# Altium footprint library Connector_PinHeader_2.00mm.PcbLib: 278 footprints (part 15 of 18)
Each footprint in its own frame and in the unit in brackets; x right, y up, seen from the top. Pads: shape width x height; smd on the part's side, far side on the other; paste and mask are expansions set on the pad; w line width, h text height; cw(c..) or ccw(c..) is an arc to the next point about the centre after c.
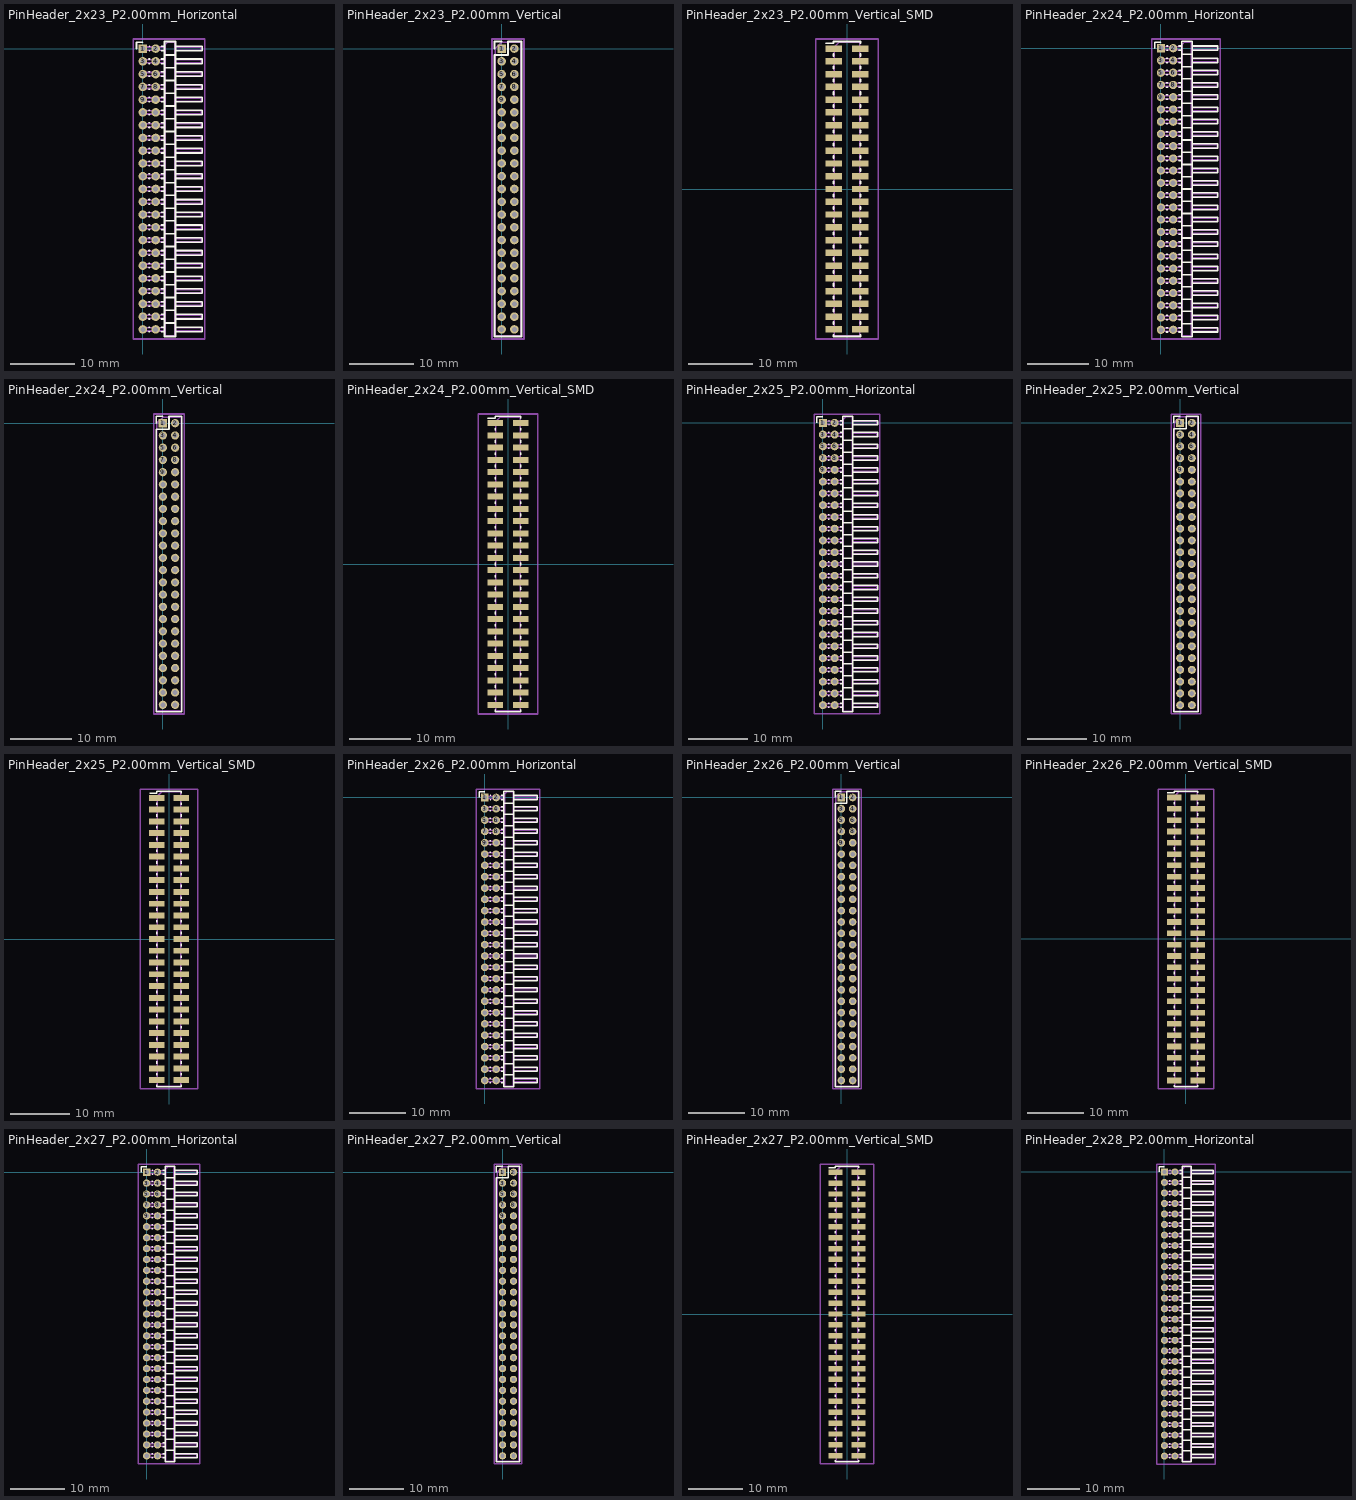
[diagram p14: the footprints below, top view; thin cyan lines are the x and y axes]

## PinHeader_2x23_P2.00mm_Horizontal [mm]
pads (46):
  rect 1.35x1.35 hole 0.8: 1(0,0)
  round 1.35 hole 0.8: 2(2,0) 3(0,-2) 4(2,-2) 5(0,-4) 6(2,-4) 7(0,-6) 8(2,-6) 9(0,-8) 10(2,-8) 11(0,-10) 12(2,-10) 13(0,-12) 14(2,-12) 15(0,-14) 16(2,-14) 17(0,-16) 18(2,-16) 19(0,-18) 20(2,-18) 21(0,-20) 22(2,-20) 23(0,-22) 24(2,-22) 25(0,-24) 26(2,-24) 27(0,-26) 28(2,-26) 29(0,-28) 30(2,-28) 31(0,-30) 32(2,-30) 33(0,-32) 34(2,-32) 35(0,-34) 36(2,-34) 37(0,-36) 38(2,-36) 39(0,-38) 40(2,-38) 41(0,-40) 42(2,-40) 43(0,-42) 44(2,-42) 45(0,-44) 46(2,-44)
F.SilkS:
  drawing of 190 lines, arcs and shapes, not listed
Top Assembly:
  lines w0.254: 3.5,-44.25 -0.25,-44.25 -0.25,-43.75 3.5,-43.75 ; 3.5,-42.25 -0.25,-42.25 -0.25,-41.75 3.5,-41.75 ; 3.5,-40.25 -0.25,-40.25 -0.25,-39.75 3.5,-39.75 ; 3.5,-38.25 -0.25,-38.25 -0.25,-37.75 3.5,-37.75 ; 3.5,-36.25 -0.25,-36.25 -0.25,-35.75 3.5,-35.75 ; 3.5,-34.25 -0.25,-34.25 -0.25,-33.75 3.5,-33.75 ; 3.5,-32.25 -0.25,-32.25 -0.25,-31.75 3.5,-31.75 ; 3.5,-30.25 -0.25,-30.25 -0.25,-29.75 3.5,-29.75 ; 3.5,-28.25 -0.25,-28.25 -0.25,-27.75 3.5,-27.75 ; 3.5,-26.25 -0.25,-26.25 -0.25,-25.75 3.5,-25.75 ; 3.5,-24.25 -0.25,-24.25 -0.25,-23.75 3.5,-23.75 ; 3.5,-22.25 -0.25,-22.25 -0.25,-21.75 3.5,-21.75 ; 3.5,-20.25 -0.25,-20.25 -0.25,-19.75 3.5,-19.75 ; 3.5,-18.25 -0.25,-18.25 -0.25,-17.75 3.5,-17.75 ; 3.5,-16.25 -0.25,-16.25 -0.25,-15.75 3.5,-15.75 ; 3.5,-14.25 -0.25,-14.25 -0.25,-13.75 3.5,-13.75 ; 3.5,-12.25 -0.25,-12.25 -0.25,-11.75 3.5,-11.75 ; 3.5,-10.25 -0.25,-10.25 -0.25,-9.75 3.5,-9.75 ; 3.5,-8.25 -0.25,-8.25 -0.25,-7.75 3.5,-7.75 ; 3.5,-6.25 -0.25,-6.25 -0.25,-5.75 3.5,-5.75 ; 3.5,-4.25 -0.25,-4.25 -0.25,-3.75 3.5,-3.75 ; 3.5,-2.25 -0.25,-2.25 -0.25,-1.75 3.5,-1.75 ; 3.5,-0.25 -0.25,-0.25 -0.25,0.25 3.5,0.25 ; 5,-44.25 9.2,-44.25 9.2,-43.75 5,-43.75 ; 5,-42.25 9.2,-42.25 9.2,-41.75 5,-41.75 ; 5,-40.25 9.2,-40.25 9.2,-39.75 5,-39.75 ; 5,-38.25 9.2,-38.25 9.2,-37.75 5,-37.75 ; 5,-36.25 9.2,-36.25 9.2,-35.75 5,-35.75 ; 5,-34.25 9.2,-34.25 9.2,-33.75 5,-33.75 ; 5,-32.25 9.2,-32.25 9.2,-31.75 5,-31.75 ; 5,-30.25 9.2,-30.25 9.2,-29.75 5,-29.75 ; 5,-28.25 9.2,-28.25 9.2,-27.75 5,-27.75 ; 5,-26.25 9.2,-26.25 9.2,-25.75 5,-25.75 ; 5,-24.25 9.2,-24.25 9.2,-23.75 5,-23.75 ; 5,-22.25 9.2,-22.25 9.2,-21.75 5,-21.75 ; 5,-20.25 9.2,-20.25 9.2,-19.75 5,-19.75 ; 5,-18.25 9.2,-18.25 9.2,-17.75 5,-17.75 ; 5,-16.25 9.2,-16.25 9.2,-15.75 5,-15.75 ; 5,-14.25 9.2,-14.25 9.2,-13.75 5,-13.75 ; 5,-12.25 9.2,-12.25 9.2,-11.75 5,-11.75 ; 5,-10.25 9.2,-10.25 9.2,-9.75 5,-9.75 ; 5,-8.25 9.2,-8.25 9.2,-7.75 5,-7.75 ; 5,-6.25 9.2,-6.25 9.2,-5.75 5,-5.75 ; 5,-4.25 9.2,-4.25 9.2,-3.75 5,-3.75 ; 5,-2.25 9.2,-2.25 9.2,-1.75 5,-1.75 ; 5,-0.25 9.2,-0.25 9.2,0.25 5,0.25 ; 3.5,-45 5,-45 5,1 3.875,1 3.5,0.625 3.5,-45
  text "'.Designator'" at 5.006,-25.642 h0.9
Top Courtyard:
  lines w0.254: -1.5,-45.5 9.7,-45.5 9.7,1.5 -1.5,1.5 -1.5,-45.5
Top Designator:
  text ".Designator" at -3.518,-22.508 h1.52

## PinHeader_2x23_P2.00mm_Vertical [mm]
pads (46):
  rect 1.35x1.35 hole 0.8: 1(0,0)
  round 1.35 hole 0.8: 2(2,0) 3(0,-2) 4(2,-2) 5(0,-4) 6(2,-4) 7(0,-6) 8(2,-6) 9(0,-8) 10(2,-8) 11(0,-10) 12(2,-10) 13(0,-12) 14(2,-12) 15(0,-14) 16(2,-14) 17(0,-16) 18(2,-16) 19(0,-18) 20(2,-18) 21(0,-20) 22(2,-20) 23(0,-22) 24(2,-22) 25(0,-24) 26(2,-24) 27(0,-26) 28(2,-26) 29(0,-28) 30(2,-28) 31(0,-30) 32(2,-30) 33(0,-32) 34(2,-32) 35(0,-34) 36(2,-34) 37(0,-36) 38(2,-36) 39(0,-38) 40(2,-38) 41(0,-40) 42(2,-40) 43(0,-42) 44(2,-42) 45(0,-44) 46(2,-44)
F.SilkS:
  lines w0.254: -1.11,0 -1.11,1.11 0,1.11 ; -1.11,-45.11 3.11,-45.11 3.11,1.11 1,1.11 1,-1 -1.11,-1 -1.11,-45.11
Top Assembly:
  lines w0.254: -1,-45 3,-45 3,1 0,1 -1,0 -1,-45
  text "'.Designator'" at 1.84,-26.047 h1
Top Courtyard:
  lines w0.254: -1.5,-45.5 3.5,-45.5 3.5,1.5 -1.5,1.5 -1.5,-45.5
Top Designator:
  text ".Designator" at -6.618,-22.508 h1.52

## PinHeader_2x23_P2.00mm_Vertical_SMD [mm]
pads (46):
  rect 2.58x1 smd: 1(-2.085,22) 2(2.085,22) 3(-2.085,20) 4(2.085,20) 5(-2.085,18) 6(2.085,18) 7(-2.085,16) 8(2.085,16) 9(-2.085,14) 10(2.085,14) 11(-2.085,12) 12(2.085,12) 13(-2.085,10) 14(2.085,10) 15(-2.085,8) 16(2.085,8) 17(-2.085,6) 18(2.085,6) 19(-2.085,4) 20(2.085,4) 21(-2.085,2) 22(2.085,2) 23(-2.085,0) 24(2.085,0) 25(-2.085,-2) 26(2.085,-2) 27(-2.085,-4) 28(2.085,-4) 29(-2.085,-6) 30(2.085,-6) 31(-2.085,-8) 32(2.085,-8) 33(-2.085,-10) 34(2.085,-10) 35(-2.085,-12) 36(2.085,-12) 37(-2.085,-14) 38(2.085,-14) 39(-2.085,-16) 40(2.085,-16) 41(-2.085,-18) 42(2.085,-18) 43(-2.085,-20) 44(2.085,-20) 45(-2.085,-22) 46(2.085,-22)
F.SilkS:
  lines w0.254: -3.315,22.81 -2.11,22.81 -2.11,23.11 2.11,23.11 2.11,22.81 ; -2.11,-22.81 -2.11,-23.11 2.11,-23.11 2.11,-22.81 ; -2.11,-21.19 -2.11,-20.81 ; -2.11,-19.19 -2.11,-18.81 ; -2.11,-17.19 -2.11,-16.81 ; -2.11,-15.19 -2.11,-14.81 ; -2.11,-13.19 -2.11,-12.81 ; -2.11,-11.19 -2.11,-10.81 ; -2.11,-9.19 -2.11,-8.81 ; -2.11,-7.19 -2.11,-6.81 ; -2.11,-5.19 -2.11,-4.81 ; -2.11,-3.19 -2.11,-2.81 ; -2.11,-1.19 -2.11,-0.81 ; -2.11,0.81 -2.11,1.19 ; -2.11,2.81 -2.11,3.19 ; -2.11,4.81 -2.11,5.19 ; -2.11,6.81 -2.11,7.19 ; -2.11,8.81 -2.11,9.19 ; -2.11,10.81 -2.11,11.19 ; -2.11,12.81 -2.11,13.19 ; -2.11,14.81 -2.11,15.19 ; -2.11,16.81 -2.11,17.19 ; -2.11,18.81 -2.11,19.19 ; -2.11,20.81 -2.11,21.19 ; 2.11,-21.19 2.11,-20.81 ; 2.11,-19.19 2.11,-18.81 ; 2.11,-17.19 2.11,-16.81 ; 2.11,-15.19 2.11,-14.81 ; 2.11,-13.19 2.11,-12.81 ; 2.11,-11.19 2.11,-10.81 ; 2.11,-9.19 2.11,-8.81 ; 2.11,-7.19 2.11,-6.81 ; 2.11,-5.19 2.11,-4.81 ; 2.11,-3.19 2.11,-2.81 ; 2.11,-1.19 2.11,-0.81 ; 2.11,0.81 2.11,1.19 ; 2.11,2.81 2.11,3.19 ; 2.11,4.81 2.11,5.19 ; 2.11,6.81 2.11,7.19 ; 2.11,8.81 2.11,9.19 ; 2.11,10.81 2.11,11.19 ; 2.11,12.81 2.11,13.19 ; 2.11,14.81 2.11,15.19 ; 2.11,16.81 2.11,17.19 ; 2.11,18.81 2.11,19.19 ; 2.11,20.81 2.11,21.19
Top Assembly:
  lines w0.254: -2,-22.25 -2.875,-22.25 -2.875,-21.75 -2,-21.75 ; -2,-20.25 -2.875,-20.25 -2.875,-19.75 -2,-19.75 ; -2,-18.25 -2.875,-18.25 -2.875,-17.75 -2,-17.75 ; -2,-16.25 -2.875,-16.25 -2.875,-15.75 -2,-15.75 ; -2,-14.25 -2.875,-14.25 -2.875,-13.75 -2,-13.75 ; -2,-12.25 -2.875,-12.25 -2.875,-11.75 -2,-11.75 ; -2,-10.25 -2.875,-10.25 -2.875,-9.75 -2,-9.75 ; -2,-8.25 -2.875,-8.25 -2.875,-7.75 -2,-7.75 ; -2,-6.25 -2.875,-6.25 -2.875,-5.75 -2,-5.75 ; -2,-4.25 -2.875,-4.25 -2.875,-3.75 -2,-3.75 ; -2,-2.25 -2.875,-2.25 -2.875,-1.75 -2,-1.75 ; -2,-0.25 -2.875,-0.25 -2.875,0.25 -2,0.25 ; -2,1.75 -2.875,1.75 -2.875,2.25 -2,2.25 ; -2,3.75 -2.875,3.75 -2.875,4.25 -2,4.25 ; -2,5.75 -2.875,5.75 -2.875,6.25 -2,6.25 ; -2,7.75 -2.875,7.75 -2.875,8.25 -2,8.25 ; -2,9.75 -2.875,9.75 -2.875,10.25 -2,10.25 ; -2,11.75 -2.875,11.75 -2.875,12.25 -2,12.25 ; -2,13.75 -2.875,13.75 -2.875,14.25 -2,14.25 ; -2,15.75 -2.875,15.75 -2.875,16.25 -2,16.25 ; -2,17.75 -2.875,17.75 -2.875,18.25 -2,18.25 ; -2,19.75 -2.875,19.75 -2.875,20.25 -2,20.25 ; -2,21.75 -2.875,21.75 -2.875,22.25 -2,22.25 ; 2,-22.25 2.875,-22.25 2.875,-21.75 2,-21.75 ; 2,-20.25 2.875,-20.25 2.875,-19.75 2,-19.75 ; 2,-18.25 2.875,-18.25 2.875,-17.75 2,-17.75 ; 2,-16.25 2.875,-16.25 2.875,-15.75 2,-15.75 ; 2,-14.25 2.875,-14.25 2.875,-13.75 2,-13.75 ; 2,-12.25 2.875,-12.25 2.875,-11.75 2,-11.75 ; 2,-10.25 2.875,-10.25 2.875,-9.75 2,-9.75 ; 2,-8.25 2.875,-8.25 2.875,-7.75 2,-7.75 ; 2,-6.25 2.875,-6.25 2.875,-5.75 2,-5.75 ; 2,-4.25 2.875,-4.25 2.875,-3.75 2,-3.75 ; 2,-2.25 2.875,-2.25 2.875,-1.75 2,-1.75 ; 2,-0.25 2.875,-0.25 2.875,0.25 2,0.25 ; 2,1.75 2.875,1.75 2.875,2.25 2,2.25 ; 2,3.75 2.875,3.75 2.875,4.25 2,4.25 ; 2,5.75 2.875,5.75 2.875,6.25 2,6.25 ; 2,7.75 2.875,7.75 2.875,8.25 2,8.25 ; 2,9.75 2.875,9.75 2.875,10.25 2,10.25 ; 2,11.75 2.875,11.75 2.875,12.25 2,12.25 ; 2,13.75 2.875,13.75 2.875,14.25 2,14.25 ; 2,15.75 2.875,15.75 2.875,16.25 2,16.25 ; 2,17.75 2.875,17.75 2.875,18.25 2,18.25 ; 2,19.75 2.875,19.75 2.875,20.25 2,20.25 ; 2,21.75 2.875,21.75 2.875,22.25 2,22.25 ; -2,22.25 -2,-23 2,-23 2,23 -1.25,23 -2,22.25
  text "'.Designator'" at 0.84,-4.047 h1
Top Courtyard:
  lines w0.254: -4.88,-23.5 4.88,-23.5 4.88,23.5 -4.88,23.5 -4.88,-23.5
Top Designator:
  text ".Designator" at -7.618,-0.508 h1.52

## PinHeader_2x24_P2.00mm_Horizontal [mm]
pads (48):
  rect 1.35x1.35 hole 0.8: 1(0,0)
  round 1.35 hole 0.8: 2(2,0) 3(0,-2) 4(2,-2) 5(0,-4) 6(2,-4) 7(0,-6) 8(2,-6) 9(0,-8) 10(2,-8) 11(0,-10) 12(2,-10) 13(0,-12) 14(2,-12) 15(0,-14) 16(2,-14) 17(0,-16) 18(2,-16) 19(0,-18) 20(2,-18) 21(0,-20) 22(2,-20) 23(0,-22) 24(2,-22) 25(0,-24) 26(2,-24) 27(0,-26) 28(2,-26) 29(0,-28) 30(2,-28) 31(0,-30) 32(2,-30) 33(0,-32) 34(2,-32) 35(0,-34) 36(2,-34) 37(0,-36) 38(2,-36) 39(0,-38) 40(2,-38) 41(0,-40) 42(2,-40) 43(0,-42) 44(2,-42) 45(0,-44) 46(2,-44) 47(0,-46) 48(2,-46)
F.SilkS:
  drawing of 198 lines, arcs and shapes, not listed
Top Assembly:
  lines w0.254: 3.5,-46.25 -0.25,-46.25 -0.25,-45.75 3.5,-45.75 ; 3.5,-44.25 -0.25,-44.25 -0.25,-43.75 3.5,-43.75 ; 3.5,-42.25 -0.25,-42.25 -0.25,-41.75 3.5,-41.75 ; 3.5,-40.25 -0.25,-40.25 -0.25,-39.75 3.5,-39.75 ; 3.5,-38.25 -0.25,-38.25 -0.25,-37.75 3.5,-37.75 ; 3.5,-36.25 -0.25,-36.25 -0.25,-35.75 3.5,-35.75 ; 3.5,-34.25 -0.25,-34.25 -0.25,-33.75 3.5,-33.75 ; 3.5,-32.25 -0.25,-32.25 -0.25,-31.75 3.5,-31.75 ; 3.5,-30.25 -0.25,-30.25 -0.25,-29.75 3.5,-29.75 ; 3.5,-28.25 -0.25,-28.25 -0.25,-27.75 3.5,-27.75 ; 3.5,-26.25 -0.25,-26.25 -0.25,-25.75 3.5,-25.75 ; 3.5,-24.25 -0.25,-24.25 -0.25,-23.75 3.5,-23.75 ; 3.5,-22.25 -0.25,-22.25 -0.25,-21.75 3.5,-21.75 ; 3.5,-20.25 -0.25,-20.25 -0.25,-19.75 3.5,-19.75 ; 3.5,-18.25 -0.25,-18.25 -0.25,-17.75 3.5,-17.75 ; 3.5,-16.25 -0.25,-16.25 -0.25,-15.75 3.5,-15.75 ; 3.5,-14.25 -0.25,-14.25 -0.25,-13.75 3.5,-13.75 ; 3.5,-12.25 -0.25,-12.25 -0.25,-11.75 3.5,-11.75 ; 3.5,-10.25 -0.25,-10.25 -0.25,-9.75 3.5,-9.75 ; 3.5,-8.25 -0.25,-8.25 -0.25,-7.75 3.5,-7.75 ; 3.5,-6.25 -0.25,-6.25 -0.25,-5.75 3.5,-5.75 ; 3.5,-4.25 -0.25,-4.25 -0.25,-3.75 3.5,-3.75 ; 3.5,-2.25 -0.25,-2.25 -0.25,-1.75 3.5,-1.75 ; 3.5,-0.25 -0.25,-0.25 -0.25,0.25 3.5,0.25 ; 5,-46.25 9.2,-46.25 9.2,-45.75 5,-45.75 ; 5,-44.25 9.2,-44.25 9.2,-43.75 5,-43.75 ; 5,-42.25 9.2,-42.25 9.2,-41.75 5,-41.75 ; 5,-40.25 9.2,-40.25 9.2,-39.75 5,-39.75 ; 5,-38.25 9.2,-38.25 9.2,-37.75 5,-37.75 ; 5,-36.25 9.2,-36.25 9.2,-35.75 5,-35.75 ; 5,-34.25 9.2,-34.25 9.2,-33.75 5,-33.75 ; 5,-32.25 9.2,-32.25 9.2,-31.75 5,-31.75 ; 5,-30.25 9.2,-30.25 9.2,-29.75 5,-29.75 ; 5,-28.25 9.2,-28.25 9.2,-27.75 5,-27.75 ; 5,-26.25 9.2,-26.25 9.2,-25.75 5,-25.75 ; 5,-24.25 9.2,-24.25 9.2,-23.75 5,-23.75 ; 5,-22.25 9.2,-22.25 9.2,-21.75 5,-21.75 ; 5,-20.25 9.2,-20.25 9.2,-19.75 5,-19.75 ; 5,-18.25 9.2,-18.25 9.2,-17.75 5,-17.75 ; 5,-16.25 9.2,-16.25 9.2,-15.75 5,-15.75 ; 5,-14.25 9.2,-14.25 9.2,-13.75 5,-13.75 ; 5,-12.25 9.2,-12.25 9.2,-11.75 5,-11.75 ; 5,-10.25 9.2,-10.25 9.2,-9.75 5,-9.75 ; 5,-8.25 9.2,-8.25 9.2,-7.75 5,-7.75 ; 5,-6.25 9.2,-6.25 9.2,-5.75 5,-5.75 ; 5,-4.25 9.2,-4.25 9.2,-3.75 5,-3.75 ; 5,-2.25 9.2,-2.25 9.2,-1.75 5,-1.75 ; 5,-0.25 9.2,-0.25 9.2,0.25 5,0.25 ; 3.5,-47 5,-47 5,1 3.875,1 3.5,0.625 3.5,-47
  text "'.Designator'" at 5.006,-26.642 h0.9
Top Courtyard:
  lines w0.254: -1.5,-47.5 9.7,-47.5 9.7,1.5 -1.5,1.5 -1.5,-47.5
Top Designator:
  text ".Designator" at -3.518,-23.508 h1.52

## PinHeader_2x24_P2.00mm_Vertical [mm]
pads (48):
  rect 1.35x1.35 hole 0.8: 1(0,0)
  round 1.35 hole 0.8: 2(2,0) 3(0,-2) 4(2,-2) 5(0,-4) 6(2,-4) 7(0,-6) 8(2,-6) 9(0,-8) 10(2,-8) 11(0,-10) 12(2,-10) 13(0,-12) 14(2,-12) 15(0,-14) 16(2,-14) 17(0,-16) 18(2,-16) 19(0,-18) 20(2,-18) 21(0,-20) 22(2,-20) 23(0,-22) 24(2,-22) 25(0,-24) 26(2,-24) 27(0,-26) 28(2,-26) 29(0,-28) 30(2,-28) 31(0,-30) 32(2,-30) 33(0,-32) 34(2,-32) 35(0,-34) 36(2,-34) 37(0,-36) 38(2,-36) 39(0,-38) 40(2,-38) 41(0,-40) 42(2,-40) 43(0,-42) 44(2,-42) 45(0,-44) 46(2,-44) 47(0,-46) 48(2,-46)
F.SilkS:
  lines w0.254: -1.11,0 -1.11,1.11 0,1.11 ; -1.11,-47.11 3.11,-47.11 3.11,1.11 1,1.11 1,-1 -1.11,-1 -1.11,-47.11
Top Assembly:
  lines w0.254: -1,-47 3,-47 3,1 0,1 -1,0 -1,-47
  text "'.Designator'" at 1.84,-27.047 h1
Top Courtyard:
  lines w0.254: -1.5,-47.5 3.5,-47.5 3.5,1.5 -1.5,1.5 -1.5,-47.5
Top Designator:
  text ".Designator" at -6.618,-23.508 h1.52

## PinHeader_2x24_P2.00mm_Vertical_SMD [mm]
pads (48):
  rect 2.58x1 smd: 1(-2.085,23) 2(2.085,23) 3(-2.085,21) 4(2.085,21) 5(-2.085,19) 6(2.085,19) 7(-2.085,17) 8(2.085,17) 9(-2.085,15) 10(2.085,15) 11(-2.085,13) 12(2.085,13) 13(-2.085,11) 14(2.085,11) 15(-2.085,9) 16(2.085,9) 17(-2.085,7) 18(2.085,7) 19(-2.085,5) 20(2.085,5) 21(-2.085,3) 22(2.085,3) 23(-2.085,1) 24(2.085,1) 25(-2.085,-1) 26(2.085,-1) 27(-2.085,-3) 28(2.085,-3) 29(-2.085,-5) 30(2.085,-5) 31(-2.085,-7) 32(2.085,-7) 33(-2.085,-9) 34(2.085,-9) 35(-2.085,-11) 36(2.085,-11) 37(-2.085,-13) 38(2.085,-13) 39(-2.085,-15) 40(2.085,-15) 41(-2.085,-17) 42(2.085,-17) 43(-2.085,-19) 44(2.085,-19) 45(-2.085,-21) 46(2.085,-21) 47(-2.085,-23) 48(2.085,-23)
F.SilkS:
  lines w0.254: -3.315,23.81 -2.11,23.81 -2.11,24.11 2.11,24.11 2.11,23.81 ; -2.11,-23.81 -2.11,-24.11 2.11,-24.11 2.11,-23.81 ; -2.11,-22.19 -2.11,-21.81 ; -2.11,-20.19 -2.11,-19.81 ; -2.11,-18.19 -2.11,-17.81 ; -2.11,-16.19 -2.11,-15.81 ; -2.11,-14.19 -2.11,-13.81 ; -2.11,-12.19 -2.11,-11.81 ; -2.11,-10.19 -2.11,-9.81 ; -2.11,-8.19 -2.11,-7.81 ; -2.11,-6.19 -2.11,-5.81 ; -2.11,-4.19 -2.11,-3.81 ; -2.11,-2.19 -2.11,-1.81 ; -2.11,-0.19 -2.11,0.19 ; -2.11,1.81 -2.11,2.19 ; -2.11,3.81 -2.11,4.19 ; -2.11,5.81 -2.11,6.19 ; -2.11,7.81 -2.11,8.19 ; -2.11,9.81 -2.11,10.19 ; -2.11,11.81 -2.11,12.19 ; -2.11,13.81 -2.11,14.19 ; -2.11,15.81 -2.11,16.19 ; -2.11,17.81 -2.11,18.19 ; -2.11,19.81 -2.11,20.19 ; -2.11,21.81 -2.11,22.19 ; 2.11,-22.19 2.11,-21.81 ; 2.11,-20.19 2.11,-19.81 ; 2.11,-18.19 2.11,-17.81 ; 2.11,-16.19 2.11,-15.81 ; 2.11,-14.19 2.11,-13.81 ; 2.11,-12.19 2.11,-11.81 ; 2.11,-10.19 2.11,-9.81 ; 2.11,-8.19 2.11,-7.81 ; 2.11,-6.19 2.11,-5.81 ; 2.11,-4.19 2.11,-3.81 ; 2.11,-2.19 2.11,-1.81 ; 2.11,-0.19 2.11,0.19 ; 2.11,1.81 2.11,2.19 ; 2.11,3.81 2.11,4.19 ; 2.11,5.81 2.11,6.19 ; 2.11,7.81 2.11,8.19 ; 2.11,9.81 2.11,10.19 ; 2.11,11.81 2.11,12.19 ; 2.11,13.81 2.11,14.19 ; 2.11,15.81 2.11,16.19 ; 2.11,17.81 2.11,18.19 ; 2.11,19.81 2.11,20.19 ; 2.11,21.81 2.11,22.19
Top Assembly:
  lines w0.254: -2,-23.25 -2.875,-23.25 -2.875,-22.75 -2,-22.75 ; -2,-21.25 -2.875,-21.25 -2.875,-20.75 -2,-20.75 ; -2,-19.25 -2.875,-19.25 -2.875,-18.75 -2,-18.75 ; -2,-17.25 -2.875,-17.25 -2.875,-16.75 -2,-16.75 ; -2,-15.25 -2.875,-15.25 -2.875,-14.75 -2,-14.75 ; -2,-13.25 -2.875,-13.25 -2.875,-12.75 -2,-12.75 ; -2,-11.25 -2.875,-11.25 -2.875,-10.75 -2,-10.75 ; -2,-9.25 -2.875,-9.25 -2.875,-8.75 -2,-8.75 ; -2,-7.25 -2.875,-7.25 -2.875,-6.75 -2,-6.75 ; -2,-5.25 -2.875,-5.25 -2.875,-4.75 -2,-4.75 ; -2,-3.25 -2.875,-3.25 -2.875,-2.75 -2,-2.75 ; -2,-1.25 -2.875,-1.25 -2.875,-0.75 -2,-0.75 ; -2,0.75 -2.875,0.75 -2.875,1.25 -2,1.25 ; -2,2.75 -2.875,2.75 -2.875,3.25 -2,3.25 ; -2,4.75 -2.875,4.75 -2.875,5.25 -2,5.25 ; -2,6.75 -2.875,6.75 -2.875,7.25 -2,7.25 ; -2,8.75 -2.875,8.75 -2.875,9.25 -2,9.25 ; -2,10.75 -2.875,10.75 -2.875,11.25 -2,11.25 ; -2,12.75 -2.875,12.75 -2.875,13.25 -2,13.25 ; -2,14.75 -2.875,14.75 -2.875,15.25 -2,15.25 ; -2,16.75 -2.875,16.75 -2.875,17.25 -2,17.25 ; -2,18.75 -2.875,18.75 -2.875,19.25 -2,19.25 ; -2,20.75 -2.875,20.75 -2.875,21.25 -2,21.25 ; -2,22.75 -2.875,22.75 -2.875,23.25 -2,23.25 ; 2,-23.25 2.875,-23.25 2.875,-22.75 2,-22.75 ; 2,-21.25 2.875,-21.25 2.875,-20.75 2,-20.75 ; 2,-19.25 2.875,-19.25 2.875,-18.75 2,-18.75 ; 2,-17.25 2.875,-17.25 2.875,-16.75 2,-16.75 ; 2,-15.25 2.875,-15.25 2.875,-14.75 2,-14.75 ; 2,-13.25 2.875,-13.25 2.875,-12.75 2,-12.75 ; 2,-11.25 2.875,-11.25 2.875,-10.75 2,-10.75 ; 2,-9.25 2.875,-9.25 2.875,-8.75 2,-8.75 ; 2,-7.25 2.875,-7.25 2.875,-6.75 2,-6.75 ; 2,-5.25 2.875,-5.25 2.875,-4.75 2,-4.75 ; 2,-3.25 2.875,-3.25 2.875,-2.75 2,-2.75 ; 2,-1.25 2.875,-1.25 2.875,-0.75 2,-0.75 ; 2,0.75 2.875,0.75 2.875,1.25 2,1.25 ; 2,2.75 2.875,2.75 2.875,3.25 2,3.25 ; 2,4.75 2.875,4.75 2.875,5.25 2,5.25 ; 2,6.75 2.875,6.75 2.875,7.25 2,7.25 ; 2,8.75 2.875,8.75 2.875,9.25 2,9.25 ; 2,10.75 2.875,10.75 2.875,11.25 2,11.25 ; 2,12.75 2.875,12.75 2.875,13.25 2,13.25 ; 2,14.75 2.875,14.75 2.875,15.25 2,15.25 ; 2,16.75 2.875,16.75 2.875,17.25 2,17.25 ; 2,18.75 2.875,18.75 2.875,19.25 2,19.25 ; 2,20.75 2.875,20.75 2.875,21.25 2,21.25 ; 2,22.75 2.875,22.75 2.875,23.25 2,23.25 ; -2,23.25 -2,-24 2,-24 2,24 -1.25,24 -2,23.25
  text "'.Designator'" at 0.84,-4.047 h1
Top Courtyard:
  lines w0.254: -4.88,-24.5 4.88,-24.5 4.88,24.5 -4.88,24.5 -4.88,-24.5
Top Designator:
  text ".Designator" at -7.618,-0.508 h1.52

## PinHeader_2x25_P2.00mm_Horizontal [mm]
pads (50):
  rect 1.35x1.35 hole 0.8: 1(0,0)
  round 1.35 hole 0.8: 2(2,0) 3(0,-2) 4(2,-2) 5(0,-4) 6(2,-4) 7(0,-6) 8(2,-6) 9(0,-8) 10(2,-8) 11(0,-10) 12(2,-10) 13(0,-12) 14(2,-12) 15(0,-14) 16(2,-14) 17(0,-16) 18(2,-16) 19(0,-18) 20(2,-18) 21(0,-20) 22(2,-20) 23(0,-22) 24(2,-22) 25(0,-24) 26(2,-24) 27(0,-26) 28(2,-26) 29(0,-28) 30(2,-28) 31(0,-30) 32(2,-30) 33(0,-32) 34(2,-32) 35(0,-34) 36(2,-34) 37(0,-36) 38(2,-36) 39(0,-38) 40(2,-38) 41(0,-40) 42(2,-40) 43(0,-42) 44(2,-42) 45(0,-44) 46(2,-44) 47(0,-46) 48(2,-46) 49(0,-48) 50(2,-48)
F.SilkS:
  drawing of 206 lines, arcs and shapes, not listed
Top Assembly:
  drawing of 155 lines, arcs and shapes, not listed
  text "'.Designator'" at 5.006,-27.642 h0.9
Top Courtyard:
  lines w0.254: -1.5,-49.5 9.7,-49.5 9.7,1.5 -1.5,1.5 -1.5,-49.5
Top Designator:
  text ".Designator" at -3.518,-24.508 h1.52

## PinHeader_2x25_P2.00mm_Vertical [mm]
pads (50):
  rect 1.35x1.35 hole 0.8: 1(0,0)
  round 1.35 hole 0.8: 2(2,0) 3(0,-2) 4(2,-2) 5(0,-4) 6(2,-4) 7(0,-6) 8(2,-6) 9(0,-8) 10(2,-8) 11(0,-10) 12(2,-10) 13(0,-12) 14(2,-12) 15(0,-14) 16(2,-14) 17(0,-16) 18(2,-16) 19(0,-18) 20(2,-18) 21(0,-20) 22(2,-20) 23(0,-22) 24(2,-22) 25(0,-24) 26(2,-24) 27(0,-26) 28(2,-26) 29(0,-28) 30(2,-28) 31(0,-30) 32(2,-30) 33(0,-32) 34(2,-32) 35(0,-34) 36(2,-34) 37(0,-36) 38(2,-36) 39(0,-38) 40(2,-38) 41(0,-40) 42(2,-40) 43(0,-42) 44(2,-42) 45(0,-44) 46(2,-44) 47(0,-46) 48(2,-46) 49(0,-48) 50(2,-48)
F.SilkS:
  lines w0.254: -1.11,0 -1.11,1.11 0,1.11 ; -1.11,-49.11 3.11,-49.11 3.11,1.11 1,1.11 1,-1 -1.11,-1 -1.11,-49.11
Top Assembly:
  lines w0.254: -1,-49 3,-49 3,1 0,1 -1,0 -1,-49
  text "'.Designator'" at 1.84,-28.047 h1
Top Courtyard:
  lines w0.254: -1.5,-49.5 3.5,-49.5 3.5,1.5 -1.5,1.5 -1.5,-49.5
Top Designator:
  text ".Designator" at -6.618,-24.508 h1.52

## PinHeader_2x25_P2.00mm_Vertical_SMD [mm]
pads (50):
  rect 2.58x1 smd: 1(-2.085,24) 2(2.085,24) 3(-2.085,22) 4(2.085,22) 5(-2.085,20) 6(2.085,20) 7(-2.085,18) 8(2.085,18) 9(-2.085,16) 10(2.085,16) 11(-2.085,14) 12(2.085,14) 13(-2.085,12) 14(2.085,12) 15(-2.085,10) 16(2.085,10) 17(-2.085,8) 18(2.085,8) 19(-2.085,6) 20(2.085,6) 21(-2.085,4) 22(2.085,4) 23(-2.085,2) 24(2.085,2) 25(-2.085,0) 26(2.085,0) 27(-2.085,-2) 28(2.085,-2) 29(-2.085,-4) 30(2.085,-4) 31(-2.085,-6) 32(2.085,-6) 33(-2.085,-8) 34(2.085,-8) 35(-2.085,-10) 36(2.085,-10) 37(-2.085,-12) 38(2.085,-12) 39(-2.085,-14) 40(2.085,-14) 41(-2.085,-16) 42(2.085,-16) 43(-2.085,-18) 44(2.085,-18) 45(-2.085,-20) 46(2.085,-20) 47(-2.085,-22) 48(2.085,-22) 49(-2.085,-24) 50(2.085,-24)
F.SilkS:
  lines w0.254: -3.315,24.81 -2.11,24.81 -2.11,25.11 2.11,25.11 2.11,24.81 ; -2.11,-24.81 -2.11,-25.11 2.11,-25.11 2.11,-24.81 ; -2.11,-23.19 -2.11,-22.81 ; -2.11,-21.19 -2.11,-20.81 ; -2.11,-19.19 -2.11,-18.81 ; -2.11,-17.19 -2.11,-16.81 ; -2.11,-15.19 -2.11,-14.81 ; -2.11,-13.19 -2.11,-12.81 ; -2.11,-11.19 -2.11,-10.81 ; -2.11,-9.19 -2.11,-8.81 ; -2.11,-7.19 -2.11,-6.81 ; -2.11,-5.19 -2.11,-4.81 ; -2.11,-3.19 -2.11,-2.81 ; -2.11,-1.19 -2.11,-0.81 ; -2.11,0.81 -2.11,1.19 ; -2.11,2.81 -2.11,3.19 ; -2.11,4.81 -2.11,5.19 ; -2.11,6.81 -2.11,7.19 ; -2.11,8.81 -2.11,9.19 ; -2.11,10.81 -2.11,11.19 ; -2.11,12.81 -2.11,13.19 ; -2.11,14.81 -2.11,15.19 ; -2.11,16.81 -2.11,17.19 ; -2.11,18.81 -2.11,19.19 ; -2.11,20.81 -2.11,21.19 ; -2.11,22.81 -2.11,23.19 ; 2.11,-23.19 2.11,-22.81 ; 2.11,-21.19 2.11,-20.81 ; 2.11,-19.19 2.11,-18.81 ; 2.11,-17.19 2.11,-16.81 ; 2.11,-15.19 2.11,-14.81 ; 2.11,-13.19 2.11,-12.81 ; 2.11,-11.19 2.11,-10.81 ; 2.11,-9.19 2.11,-8.81 ; 2.11,-7.19 2.11,-6.81 ; 2.11,-5.19 2.11,-4.81 ; 2.11,-3.19 2.11,-2.81 ; 2.11,-1.19 2.11,-0.81 ; 2.11,0.81 2.11,1.19 ; 2.11,2.81 2.11,3.19 ; 2.11,4.81 2.11,5.19 ; 2.11,6.81 2.11,7.19 ; 2.11,8.81 2.11,9.19 ; 2.11,10.81 2.11,11.19 ; 2.11,12.81 2.11,13.19 ; 2.11,14.81 2.11,15.19 ; 2.11,16.81 2.11,17.19 ; 2.11,18.81 2.11,19.19 ; 2.11,20.81 2.11,21.19 ; 2.11,22.81 2.11,23.19
Top Assembly:
  drawing of 155 lines, arcs and shapes, not listed
  text "'.Designator'" at 0.84,-4.047 h1
Top Courtyard:
  lines w0.254: -4.88,-25.5 4.88,-25.5 4.88,25.5 -4.88,25.5 -4.88,-25.5
Top Designator:
  text ".Designator" at -7.618,-0.508 h1.52

## PinHeader_2x26_P2.00mm_Horizontal [mm]
pads (52):
  rect 1.35x1.35 hole 0.8: 1(0,0)
  round 1.35 hole 0.8: 2(2,0) 3(0,-2) 4(2,-2) 5(0,-4) 6(2,-4) 7(0,-6) 8(2,-6) 9(0,-8) 10(2,-8) 11(0,-10) 12(2,-10) 13(0,-12) 14(2,-12) 15(0,-14) 16(2,-14) 17(0,-16) 18(2,-16) 19(0,-18) 20(2,-18) 21(0,-20) 22(2,-20) 23(0,-22) 24(2,-22) 25(0,-24) 26(2,-24) 27(0,-26) 28(2,-26) 29(0,-28) 30(2,-28) 31(0,-30) 32(2,-30) 33(0,-32) 34(2,-32) 35(0,-34) 36(2,-34) 37(0,-36) 38(2,-36) 39(0,-38) 40(2,-38) 41(0,-40) 42(2,-40) 43(0,-42) 44(2,-42) 45(0,-44) 46(2,-44) 47(0,-46) 48(2,-46) 49(0,-48) 50(2,-48) 51(0,-50) 52(2,-50)
F.SilkS:
  drawing of 214 lines, arcs and shapes, not listed
Top Assembly:
  drawing of 161 lines, arcs and shapes, not listed
  text "'.Designator'" at 5.006,-28.642 h0.9
Top Courtyard:
  lines w0.254: -1.5,-51.5 9.7,-51.5 9.7,1.5 -1.5,1.5 -1.5,-51.5
Top Designator:
  text ".Designator" at -3.518,-25.508 h1.52

## PinHeader_2x26_P2.00mm_Vertical [mm]
pads (52):
  rect 1.35x1.35 hole 0.8: 1(0,0)
  round 1.35 hole 0.8: 2(2,0) 3(0,-2) 4(2,-2) 5(0,-4) 6(2,-4) 7(0,-6) 8(2,-6) 9(0,-8) 10(2,-8) 11(0,-10) 12(2,-10) 13(0,-12) 14(2,-12) 15(0,-14) 16(2,-14) 17(0,-16) 18(2,-16) 19(0,-18) 20(2,-18) 21(0,-20) 22(2,-20) 23(0,-22) 24(2,-22) 25(0,-24) 26(2,-24) 27(0,-26) 28(2,-26) 29(0,-28) 30(2,-28) 31(0,-30) 32(2,-30) 33(0,-32) 34(2,-32) 35(0,-34) 36(2,-34) 37(0,-36) 38(2,-36) 39(0,-38) 40(2,-38) 41(0,-40) 42(2,-40) 43(0,-42) 44(2,-42) 45(0,-44) 46(2,-44) 47(0,-46) 48(2,-46) 49(0,-48) 50(2,-48) 51(0,-50) 52(2,-50)
F.SilkS:
  lines w0.254: -1.11,0 -1.11,1.11 0,1.11 ; -1.11,-51.11 3.11,-51.11 3.11,1.11 1,1.11 1,-1 -1.11,-1 -1.11,-51.11
Top Assembly:
  lines w0.254: -1,-51 3,-51 3,1 0,1 -1,0 -1,-51
  text "'.Designator'" at 1.84,-29.047 h1
Top Courtyard:
  lines w0.254: -1.5,-51.5 3.5,-51.5 3.5,1.5 -1.5,1.5 -1.5,-51.5
Top Designator:
  text ".Designator" at -6.618,-25.508 h1.52

## PinHeader_2x26_P2.00mm_Vertical_SMD [mm]
pads (52):
  rect 2.58x1 smd: 1(-2.085,25) 2(2.085,25) 3(-2.085,23) 4(2.085,23) 5(-2.085,21) 6(2.085,21) 7(-2.085,19) 8(2.085,19) 9(-2.085,17) 10(2.085,17) 11(-2.085,15) 12(2.085,15) 13(-2.085,13) 14(2.085,13) 15(-2.085,11) 16(2.085,11) 17(-2.085,9) 18(2.085,9) 19(-2.085,7) 20(2.085,7) 21(-2.085,5) 22(2.085,5) 23(-2.085,3) 24(2.085,3) 25(-2.085,1) 26(2.085,1) 27(-2.085,-1) 28(2.085,-1) 29(-2.085,-3) 30(2.085,-3) 31(-2.085,-5) 32(2.085,-5) 33(-2.085,-7) 34(2.085,-7) 35(-2.085,-9) 36(2.085,-9) 37(-2.085,-11) 38(2.085,-11) 39(-2.085,-13) 40(2.085,-13) 41(-2.085,-15) 42(2.085,-15) 43(-2.085,-17) 44(2.085,-17) 45(-2.085,-19) 46(2.085,-19) 47(-2.085,-21) 48(2.085,-21) 49(-2.085,-23) 50(2.085,-23) 51(-2.085,-25) 52(2.085,-25)
F.SilkS:
  lines w0.254: -3.315,25.81 -2.11,25.81 -2.11,26.11 2.11,26.11 2.11,25.81 ; -2.11,-25.81 -2.11,-26.11 2.11,-26.11 2.11,-25.81 ; -2.11,-24.19 -2.11,-23.81 ; -2.11,-22.19 -2.11,-21.81 ; -2.11,-20.19 -2.11,-19.81 ; -2.11,-18.19 -2.11,-17.81 ; -2.11,-16.19 -2.11,-15.81 ; -2.11,-14.19 -2.11,-13.81 ; -2.11,-12.19 -2.11,-11.81 ; -2.11,-10.19 -2.11,-9.81 ; -2.11,-8.19 -2.11,-7.81 ; -2.11,-6.19 -2.11,-5.81 ; -2.11,-4.19 -2.11,-3.81 ; -2.11,-2.19 -2.11,-1.81 ; -2.11,-0.19 -2.11,0.19 ; -2.11,1.81 -2.11,2.19 ; -2.11,3.81 -2.11,4.19 ; -2.11,5.81 -2.11,6.19 ; -2.11,7.81 -2.11,8.19 ; -2.11,9.81 -2.11,10.19 ; -2.11,11.81 -2.11,12.19 ; -2.11,13.81 -2.11,14.19 ; -2.11,15.81 -2.11,16.19 ; -2.11,17.81 -2.11,18.19 ; -2.11,19.81 -2.11,20.19 ; -2.11,21.81 -2.11,22.19 ; -2.11,23.81 -2.11,24.19 ; 2.11,-24.19 2.11,-23.81 ; 2.11,-22.19 2.11,-21.81 ; 2.11,-20.19 2.11,-19.81 ; 2.11,-18.19 2.11,-17.81 ; 2.11,-16.19 2.11,-15.81 ; 2.11,-14.19 2.11,-13.81 ; 2.11,-12.19 2.11,-11.81 ; 2.11,-10.19 2.11,-9.81 ; 2.11,-8.19 2.11,-7.81 ; 2.11,-6.19 2.11,-5.81 ; 2.11,-4.19 2.11,-3.81 ; 2.11,-2.19 2.11,-1.81 ; 2.11,-0.19 2.11,0.19 ; 2.11,1.81 2.11,2.19 ; 2.11,3.81 2.11,4.19 ; 2.11,5.81 2.11,6.19 ; 2.11,7.81 2.11,8.19 ; 2.11,9.81 2.11,10.19 ; 2.11,11.81 2.11,12.19 ; 2.11,13.81 2.11,14.19 ; 2.11,15.81 2.11,16.19 ; 2.11,17.81 2.11,18.19 ; 2.11,19.81 2.11,20.19 ; 2.11,21.81 2.11,22.19 ; 2.11,23.81 2.11,24.19
Top Assembly:
  drawing of 161 lines, arcs and shapes, not listed
  text "'.Designator'" at 0.84,-4.047 h1
Top Courtyard:
  lines w0.254: -4.88,-26.5 4.88,-26.5 4.88,26.5 -4.88,26.5 -4.88,-26.5
Top Designator:
  text ".Designator" at -7.618,-0.508 h1.52

## PinHeader_2x27_P2.00mm_Horizontal [mm]
pads (54):
  rect 1.35x1.35 hole 0.8: 1(0,0)
  round 1.35 hole 0.8: 2(2,0) 3(0,-2) 4(2,-2) 5(0,-4) 6(2,-4) 7(0,-6) 8(2,-6) 9(0,-8) 10(2,-8) 11(0,-10) 12(2,-10) 13(0,-12) 14(2,-12) 15(0,-14) 16(2,-14) 17(0,-16) 18(2,-16) 19(0,-18) 20(2,-18) 21(0,-20) 22(2,-20) 23(0,-22) 24(2,-22) 25(0,-24) 26(2,-24) 27(0,-26) 28(2,-26) 29(0,-28) 30(2,-28) 31(0,-30) 32(2,-30) 33(0,-32) 34(2,-32) 35(0,-34) 36(2,-34) 37(0,-36) 38(2,-36) 39(0,-38) 40(2,-38) 41(0,-40) 42(2,-40) 43(0,-42) 44(2,-42) 45(0,-44) 46(2,-44) 47(0,-46) 48(2,-46) 49(0,-48) 50(2,-48) 51(0,-50) 52(2,-50) 53(0,-52) 54(2,-52)
F.SilkS:
  drawing of 222 lines, arcs and shapes, not listed
Top Assembly:
  drawing of 167 lines, arcs and shapes, not listed
  text "'.Designator'" at 5.006,-29.642 h0.9
Top Courtyard:
  lines w0.254: -1.5,-53.5 9.7,-53.5 9.7,1.5 -1.5,1.5 -1.5,-53.5
Top Designator:
  text ".Designator" at -3.518,-26.508 h1.52

## PinHeader_2x27_P2.00mm_Vertical [mm]
pads (54):
  rect 1.35x1.35 hole 0.8: 1(0,0)
  round 1.35 hole 0.8: 2(2,0) 3(0,-2) 4(2,-2) 5(0,-4) 6(2,-4) 7(0,-6) 8(2,-6) 9(0,-8) 10(2,-8) 11(0,-10) 12(2,-10) 13(0,-12) 14(2,-12) 15(0,-14) 16(2,-14) 17(0,-16) 18(2,-16) 19(0,-18) 20(2,-18) 21(0,-20) 22(2,-20) 23(0,-22) 24(2,-22) 25(0,-24) 26(2,-24) 27(0,-26) 28(2,-26) 29(0,-28) 30(2,-28) 31(0,-30) 32(2,-30) 33(0,-32) 34(2,-32) 35(0,-34) 36(2,-34) 37(0,-36) 38(2,-36) 39(0,-38) 40(2,-38) 41(0,-40) 42(2,-40) 43(0,-42) 44(2,-42) 45(0,-44) 46(2,-44) 47(0,-46) 48(2,-46) 49(0,-48) 50(2,-48) 51(0,-50) 52(2,-50) 53(0,-52) 54(2,-52)
F.SilkS:
  lines w0.254: -1.11,0 -1.11,1.11 0,1.11 ; -1.11,-53.11 3.11,-53.11 3.11,1.11 1,1.11 1,-1 -1.11,-1 -1.11,-53.11
Top Assembly:
  lines w0.254: -1,-53 3,-53 3,1 0,1 -1,0 -1,-53
  text "'.Designator'" at 1.84,-30.047 h1
Top Courtyard:
  lines w0.254: -1.5,-53.5 3.5,-53.5 3.5,1.5 -1.5,1.5 -1.5,-53.5
Top Designator:
  text ".Designator" at -6.618,-26.508 h1.52

## PinHeader_2x27_P2.00mm_Vertical_SMD [mm]
pads (54):
  rect 2.58x1 smd: 1(-2.085,26) 2(2.085,26) 3(-2.085,24) 4(2.085,24) 5(-2.085,22) 6(2.085,22) 7(-2.085,20) 8(2.085,20) 9(-2.085,18) 10(2.085,18) 11(-2.085,16) 12(2.085,16) 13(-2.085,14) 14(2.085,14) 15(-2.085,12) 16(2.085,12) 17(-2.085,10) 18(2.085,10) 19(-2.085,8) 20(2.085,8) 21(-2.085,6) 22(2.085,6) 23(-2.085,4) 24(2.085,4) 25(-2.085,2) 26(2.085,2) 27(-2.085,0) 28(2.085,0) 29(-2.085,-2) 30(2.085,-2) 31(-2.085,-4) 32(2.085,-4) 33(-2.085,-6) 34(2.085,-6) 35(-2.085,-8) 36(2.085,-8) 37(-2.085,-10) 38(2.085,-10) 39(-2.085,-12) 40(2.085,-12) 41(-2.085,-14) 42(2.085,-14) 43(-2.085,-16) 44(2.085,-16) 45(-2.085,-18) 46(2.085,-18) 47(-2.085,-20) 48(2.085,-20) 49(-2.085,-22) 50(2.085,-22) 51(-2.085,-24) 52(2.085,-24) 53(-2.085,-26) 54(2.085,-26)
F.SilkS:
  lines w0.254: -3.315,26.81 -2.11,26.81 -2.11,27.11 2.11,27.11 2.11,26.81 ; -2.11,-26.81 -2.11,-27.11 2.11,-27.11 2.11,-26.81 ; -2.11,-25.19 -2.11,-24.81 ; -2.11,-23.19 -2.11,-22.81 ; -2.11,-21.19 -2.11,-20.81 ; -2.11,-19.19 -2.11,-18.81 ; -2.11,-17.19 -2.11,-16.81 ; -2.11,-15.19 -2.11,-14.81 ; -2.11,-13.19 -2.11,-12.81 ; -2.11,-11.19 -2.11,-10.81 ; -2.11,-9.19 -2.11,-8.81 ; -2.11,-7.19 -2.11,-6.81 ; -2.11,-5.19 -2.11,-4.81 ; -2.11,-3.19 -2.11,-2.81 ; -2.11,-1.19 -2.11,-0.81 ; -2.11,0.81 -2.11,1.19 ; -2.11,2.81 -2.11,3.19 ; -2.11,4.81 -2.11,5.19 ; -2.11,6.81 -2.11,7.19 ; -2.11,8.81 -2.11,9.19 ; -2.11,10.81 -2.11,11.19 ; -2.11,12.81 -2.11,13.19 ; -2.11,14.81 -2.11,15.19 ; -2.11,16.81 -2.11,17.19 ; -2.11,18.81 -2.11,19.19 ; -2.11,20.81 -2.11,21.19 ; -2.11,22.81 -2.11,23.19 ; -2.11,24.81 -2.11,25.19 ; 2.11,-25.19 2.11,-24.81 ; 2.11,-23.19 2.11,-22.81 ; 2.11,-21.19 2.11,-20.81 ; 2.11,-19.19 2.11,-18.81 ; 2.11,-17.19 2.11,-16.81 ; 2.11,-15.19 2.11,-14.81 ; 2.11,-13.19 2.11,-12.81 ; 2.11,-11.19 2.11,-10.81 ; 2.11,-9.19 2.11,-8.81 ; 2.11,-7.19 2.11,-6.81 ; 2.11,-5.19 2.11,-4.81 ; 2.11,-3.19 2.11,-2.81 ; 2.11,-1.19 2.11,-0.81 ; 2.11,0.81 2.11,1.19 ; 2.11,2.81 2.11,3.19 ; 2.11,4.81 2.11,5.19 ; 2.11,6.81 2.11,7.19 ; 2.11,8.81 2.11,9.19 ; 2.11,10.81 2.11,11.19 ; 2.11,12.81 2.11,13.19 ; 2.11,14.81 2.11,15.19 ; 2.11,16.81 2.11,17.19 ; 2.11,18.81 2.11,19.19 ; 2.11,20.81 2.11,21.19 ; 2.11,22.81 2.11,23.19 ; 2.11,24.81 2.11,25.19
Top Assembly:
  drawing of 167 lines, arcs and shapes, not listed
  text "'.Designator'" at 0.84,-4.047 h1
Top Courtyard:
  lines w0.254: -4.88,-27.5 4.88,-27.5 4.88,27.5 -4.88,27.5 -4.88,-27.5
Top Designator:
  text ".Designator" at -7.618,-0.508 h1.52

## PinHeader_2x28_P2.00mm_Horizontal [mm]
pads (56):
  rect 1.35x1.35 hole 0.8: 1(0,0)
  round 1.35 hole 0.8: 2(2,0) 3(0,-2) 4(2,-2) 5(0,-4) 6(2,-4) 7(0,-6) 8(2,-6) 9(0,-8) 10(2,-8) 11(0,-10) 12(2,-10) 13(0,-12) 14(2,-12) 15(0,-14) 16(2,-14) 17(0,-16) 18(2,-16) 19(0,-18) 20(2,-18) 21(0,-20) 22(2,-20) 23(0,-22) 24(2,-22) 25(0,-24) 26(2,-24) 27(0,-26) 28(2,-26) 29(0,-28) 30(2,-28) 31(0,-30) 32(2,-30) 33(0,-32) 34(2,-32) 35(0,-34) 36(2,-34) 37(0,-36) 38(2,-36) 39(0,-38) 40(2,-38) 41(0,-40) 42(2,-40) 43(0,-42) 44(2,-42) 45(0,-44) 46(2,-44) 47(0,-46) 48(2,-46) 49(0,-48) 50(2,-48) 51(0,-50) 52(2,-50) 53(0,-52) 54(2,-52) 55(0,-54) 56(2,-54)
F.SilkS:
  drawing of 230 lines, arcs and shapes, not listed
Top Assembly:
  drawing of 173 lines, arcs and shapes, not listed
  text "'.Designator'" at 5.006,-30.642 h0.9
Top Courtyard:
  lines w0.254: -1.5,-55.5 9.7,-55.5 9.7,1.5 -1.5,1.5 -1.5,-55.5
Top Designator:
  text ".Designator" at -3.518,-27.508 h1.52